# EAGLE library part ADP2303 (library IntegerLabs)
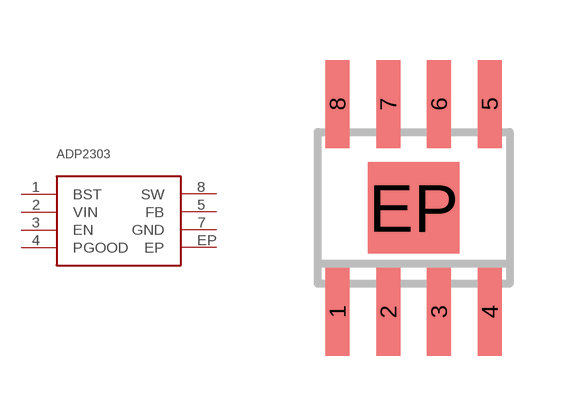
[diagram p27: symbol with the pads of SOIC8-EP; footprint SOIC8-EP]

Designator prefix -

## ADP2303  [SOIC8-EP]
1  BST
2  VIN
3  EN
4  PGOOD
5  FB
7  GND
8  SW
EP  EP

## Footprint SOIC8-EP (pad centres in mm)
SMALL OUTLINE INTEGRATED CIRCUIT
smd 0.6 x 2.2: 1 -1.905,-2.6; 2 -0.635,-2.6; 3 0.635,-2.6; 4 1.905,-2.6; 5 1.905,2.6; 6 0.635,2.6; 7 -0.635,2.6; 8 -1.905,2.6
smd 2.286 x 2.286: EP 0,0